# EAGLE library part JTAG-ARM-10PIN-FEMALE (library motorController)
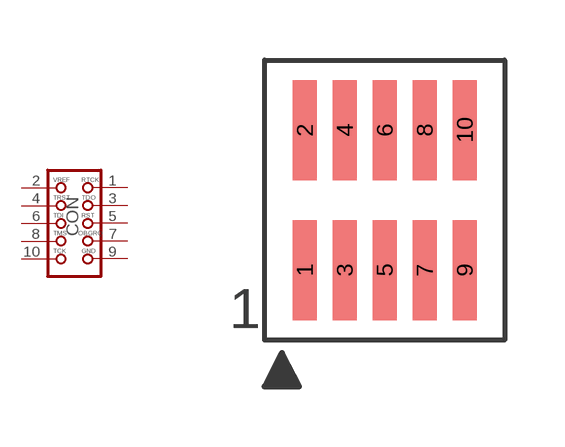
[diagram p15: symbol with the pads of JTAG-1MM-HEADER; footprint JTAG-1MM-HEADER]

Designator prefix CON

## JTAG-ARM-10PIN-FEMALE  [JTAG-1MM-HEADER]
1  RTCK  pas
2  VREF  pas
3  TDO  pas
4  TRST  pas
5  RST  pas
6  TDI  pas
7  OBGRQ  pas
8  TMS  pas
9  GND  pas
10  TCK  pas

## Footprint JTAG-1MM-HEADER (pad centres in mm)
smd 0.6 x 2.5: 1 -2,-1.75; 2 -2,1.75; 3 -1,-1.75; 4 -1,1.75; 5 0,-1.75; 6 0,1.75; 7 1,-1.75; 8 1,1.75; 9 2,-1.75; 10 2,1.75